# EAGLE library part NRF24L01+ (library kanflo)
NRF24L01+ This is the mini variant with 1.27mm pitch. VCC 1.9-3.6V
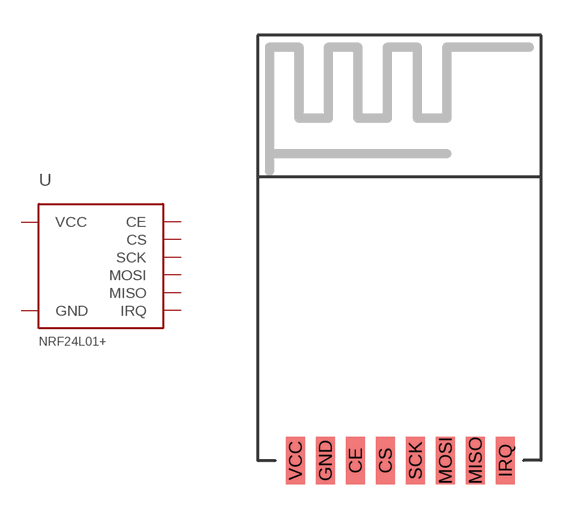
[diagram p18: symbol with the pads of NRF24L01+-MINI; footprint NRF24L01+-MINI]

Designator prefix U

## NRF24L01+-MINI  [NRF24L01+-MINI]
CE  CE  in
CS  CS  in
GND  GND  pwr
IRQ  IRQ  out
MISO  MISO  out
MOSI  MOSI  in
SCK  SCK  in
VCC  VCC  pwr

## Footprint NRF24L01+-MINI (pad centres in mm)
smd 0.8 x 2: CE 4.14,0; CS 5.41,0; GND 2.87,0; IRQ 10.49,0; MISO 9.22,0; MOSI 7.95,0; SCK 6.68,0; VCC 1.6,0